# Altium footprint library PCB.PcbLib: 35 footprints (part 3 of 3)
Each footprint in its own frame and in the unit in brackets; x right, y up, seen from the top. Pads: shape width x height; smd on the part's side, far side on the other; paste and mask are expansions set on the pad; w line width, h text height; cw(c..) or ccw(c..) is an arc to the next point about the centre after c.
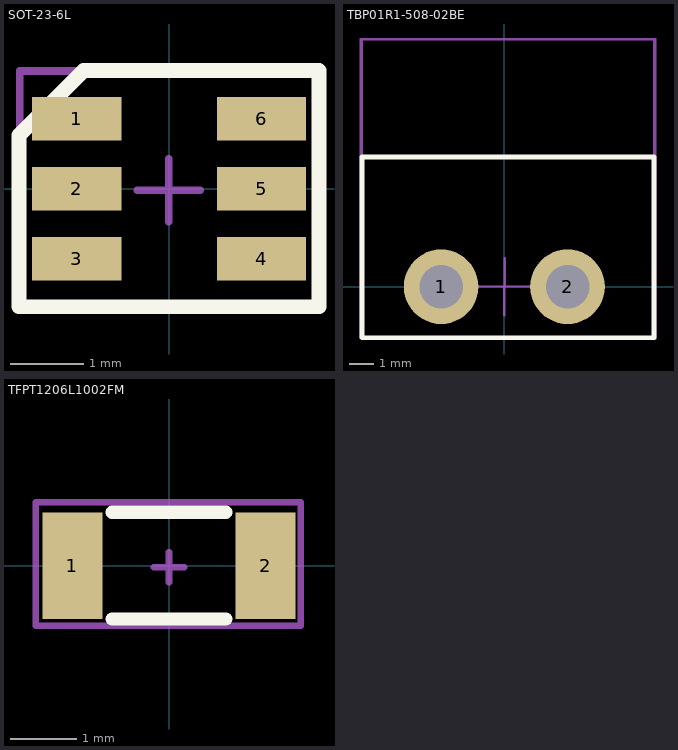
[diagram p2: the footprints below, top view; thin cyan lines are the x and y axes]

## SOT-23-6L [mm]
pads (6):
  rect 1.21x0.59 smd mask+0.05: 1(-1.255,0.95) 2(-1.255,0) 3(-1.255,-0.95) 4(1.255,-0.95) 5(1.255,0) 6(1.255,0.95)
Top Overlay:
  lines w0.2: -2.038,-1.601 -2.038,0.728 -1.161,1.605 2.034,1.605 2.034,-1.601 -2.038,-1.601
Top Component Center:
  lines w0.1: -0.435,-0.018 0.421,-0.018 ; -0.007,-0.446 -0.007,0.41 ; -2.028,-1.611 -2.028,1.595 2.034,1.595 2.034,-1.611 -2.028,-1.611
Top Designator:
  lines w0.1: -2.03,-1.604 -2.03,1.602 2.032,1.602 2.032,-1.604 -2.03,-1.604
  text ".Designator" at -1.764,-0.413 h1
3D body "USBLC6-2SC6.STEP": height 1.42, standoff -0.03, extent -1.4,-1.462 1.4,1.462

## TBP01R1-508-02BE [mm]
pads (2):
  round 3 hole 1.75 mask+0.05: 1(-2.54,0) 2(2.54,0)
Top Overlay:
  lines w0.2: -5.72,-2.05 -5.72,5.21 6.01,5.21 6.01,-2.05 -5.72,-2.05
Top Component Center:
  lines w0.1: -1.14,0.01 1.15,0 ; -5.76,-2.04 -5.76,9.94 6.03,9.94 6.03,-2.1 6.03,-2.04 -5.76,-2.04 ; 0,-1.14 0.01,1.15 0,-1.14
Top Designator:
  lines w0.1: -5.735,-2.025 -5.735,9.955 6.055,9.955 6.055,-2.085 6.055,-2.025 -5.735,-2.025
  text ".Designator" at -3.146,-0.518 h1.52
3D body "CUI_DEVICES_TBP01R1-508-02BE.step": height 8.55, standoff -3.95, extent -5.75,-2.04 6.01,9.96

## TFPT1206L1002FM [mm]
pads (2):
  rect 0.9x1.6 smd mask+0.05: 1(-1.45,0) 2(1.45,0)
Top Overlay:
  lines w0.2: -0.85,-0.8 0.85,-0.8 ; -0.85,0.8 0.85,0.8
Top Component Center:
  lines w0.1: -0.225,-0.025 0.225,-0.025 ; 0,-0.25 0,0.2 ; -2,-0.9 1.975,-0.9 1.975,0.95 -2,0.95 -2,-0.9
Top Designator:
  lines w0.1: -2,-0.9 1.975,-0.9 1.975,0.95 -2,0.95 -2,-0.9
  text ".Designator" at -1.45,-0.183 h0.5
3D body "res1206r.STEP": height 0.55, standoff 0, extent -1.984,-0.938 1.984,0.938